# Altium footprint library 2.13-TSOC封装.PcbLib: 1 footprints
Each footprint in its own frame and in the unit in brackets; x right, y up, seen from the top. Pads: shape width x height; smd on the part's side, far side on the other; paste and mask are expansions set on the pad; w line width, h text height; cw(c..) or ccw(c..) is an arc to the next point about the centre after c.
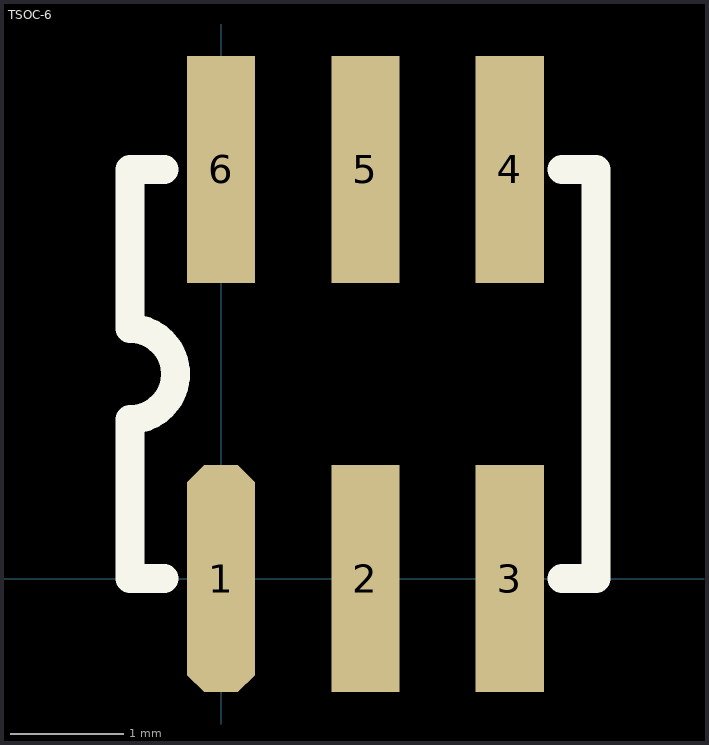
[diagram p0: the footprint, top view; thin cyan lines are the x and y axes]

## TSOC-6 [mm]
height 12.75
pads (6):
  oct 0.6x2 smd: 1(0,0)
  rect 0.6x2 smd: 2(1.27,0) 3(2.54,0) 4(2.54,3.6) 5(1.27,3.6) 6(0,3.6)
Top Overlay:
  lines w0.254: -0.5,0 -0.8,0 -0.8,1.4 ccw(c-0.8,1.8) -0.8,2.2 -0.8,3.6 -0.5,3.6 ; 3,0 3.3,0 3.3,3.6 3,3.6
3D body "TSOC-6_L4.0-W4.0-P1.27-BL~TSOC-6_L4.0-W4.0-H1.2-P1.27~dCRb.STEP": height 1.2, standoff 0, extent -0.762,-0.372 3.238,3.928